# EAGLE library part CK_JS_6SMD (library switch)
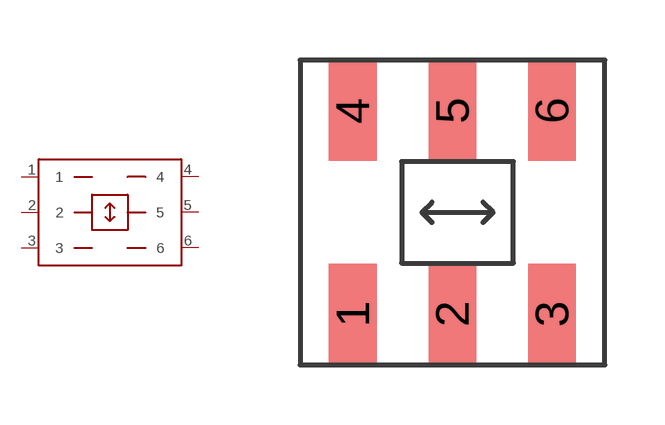
[diagram p64: symbol with the pads of 6PINSMD; footprint 6PINSMD]

Designator prefix -

## CK_JS_6SMD  [6PINSMD]
1  1
2  2
3  3
4  4
5  5
6  6

## Footprint 6PINSMD (pad centres in mm)
smd 1.194 x 2.502: 1 -2.489,-2.54; 2 0,-2.54; 3 2.489,-2.54; 4 -2.489,2.54; 5 0,2.54; 6 2.489,2.54